# Altium integrated library Analog Devices Data Converters Analog-to-Digital Converters.IntLib: 2404 symbols (part 332 of 346)
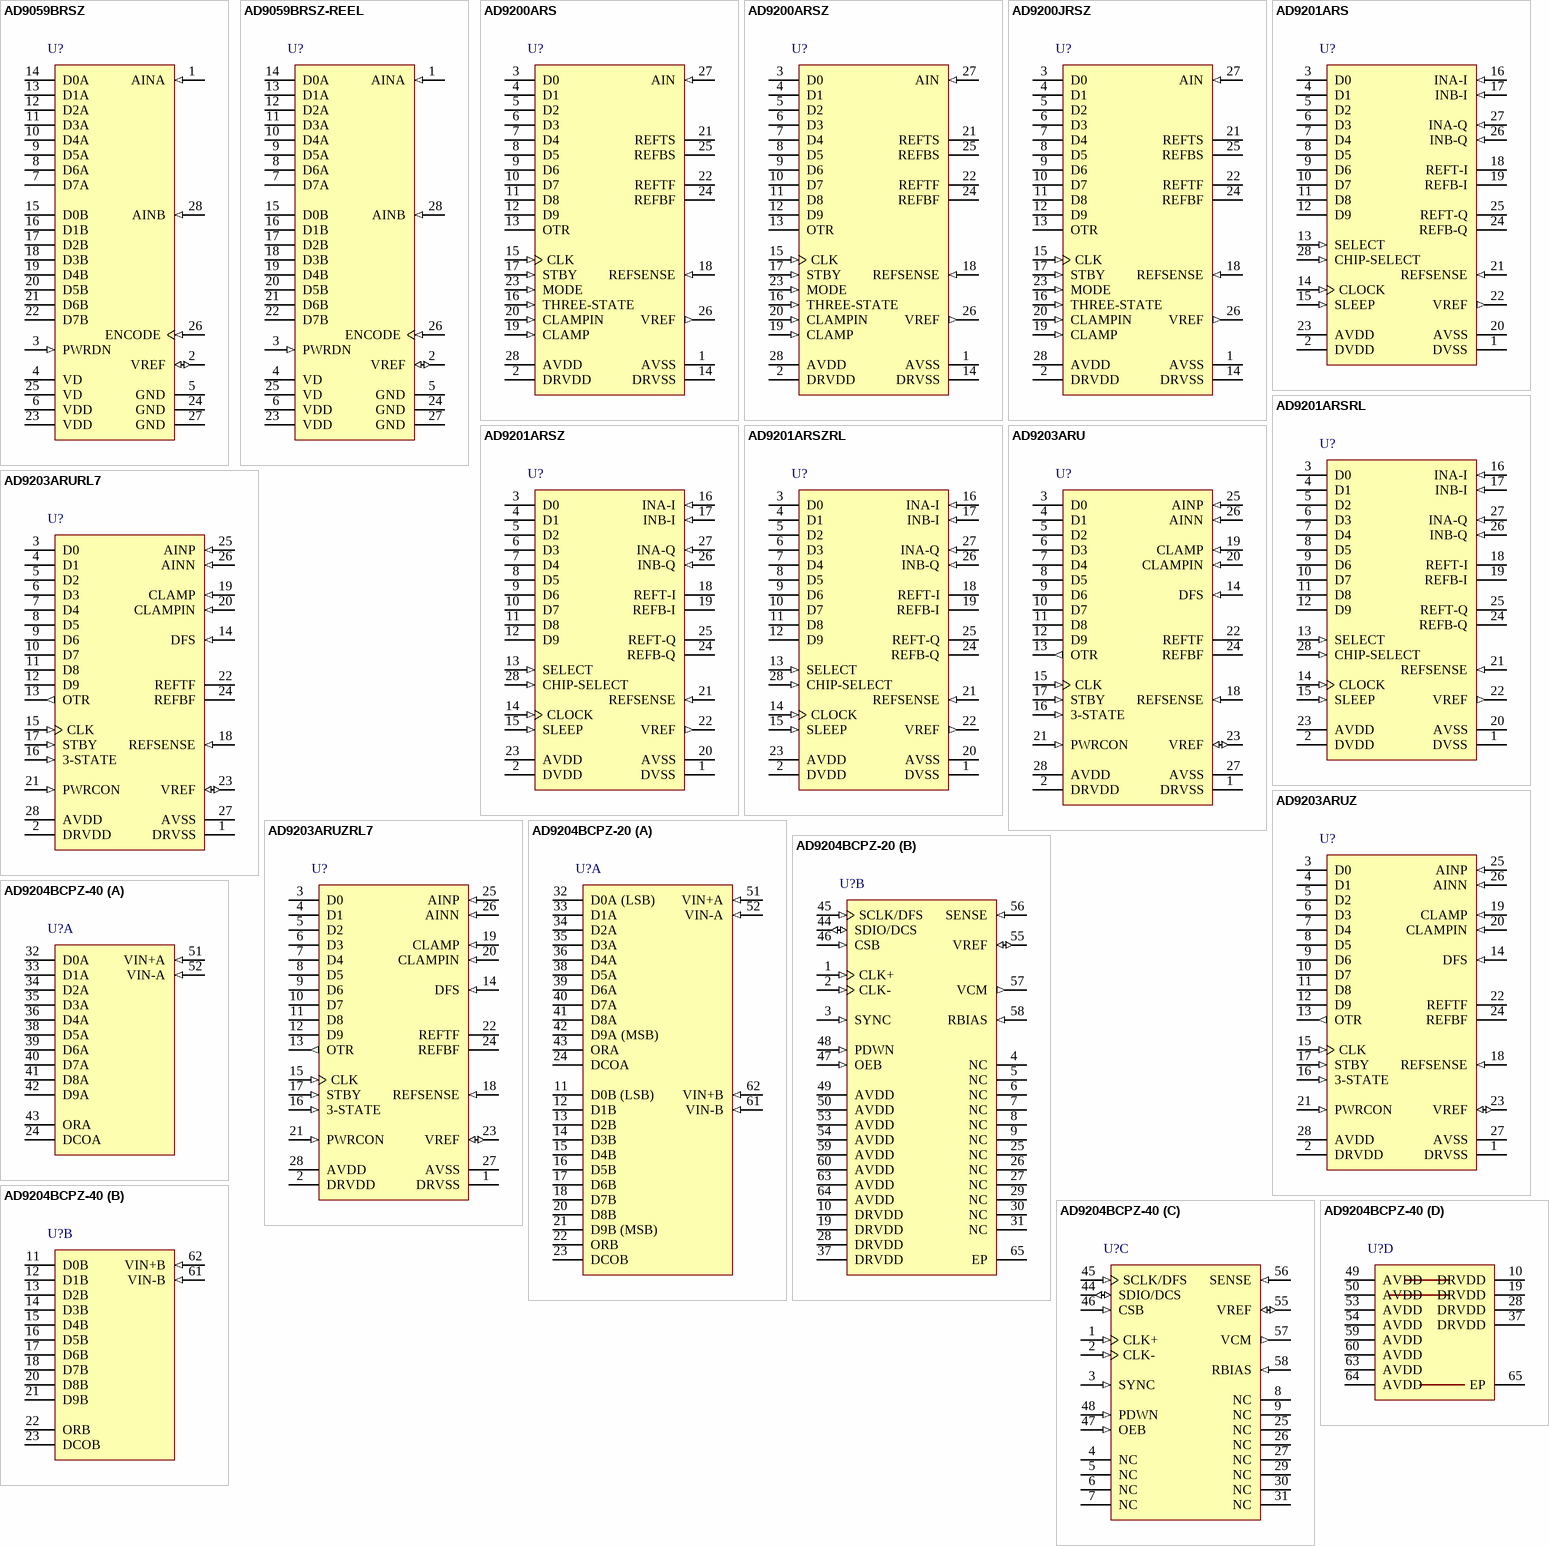
[diagram p432: symbols AD9059BRSZ to AD9204BCPZ-40]

## AD9200JRSZ
designator U?
Single 10-Bit Analog-to-Digital Converter with Parallel Interface, 80 mW, CMOS, 20MSPS, 0 to +70 degC, RS-28, Pb-Free, Tube; Generic Part Number: AD9200; Manufacturer: Analog Devices; PartNumber: AD9200JRSZ; Resolution (Bits): 10; Channels: 1; Throughput Rate (SPS): 20M; Interface: Par; DatasheetVersion: Rev.E; PackageVersion: 060106-A; PackageReference: RS-28; PackageDescription: 28-Lead Shrink Small Outline Package [SSOP]; Supplier 1: Digi-Key; Supplier Part Number 1: AD9200JRSZ-ND; Supplier 2: Newark; Supplier Part Number 2: 59K7122; Supplier 3: Mouser; Supplier Part Number 3: 584-AD9200JRSZ; RoHS: Y; Packing: Tube; Mounting Technology: Surface Mount; Code_JEDEC: MO-150-AH; ComponentLink1Description: Manufacturer URL; ComponentLink1URL: http://www.analog.com/en/index.html; ComponentLink2Description: Datasheet; ComponentLink2URL: http://www.analog.com/static/imported-files/data_sheets/AD9200.pdf; ComponentLink3Description: Package Specification; ComponentLink3URL: http://www.analog.com/static/imported-files/packages/32122249223724RS_28.pdf; ComponentLink4Description: Product URL; ComponentLink4URL: http://www.analog.com/en/analog-to-digital-converters/ad-converters/ad9200/products/product.html
footprint RS-28_N (SOP, 28-Leads, Body 10.2x5.3mm, Pitch 0.65mm, IPC Medium Density)
footprint RS-28_L (SOP, 28-Leads, Body 10.2x5.3mm, Pitch 0.65mm, IPC High Density)
footprint RS-28_M (SOP, 28-Leads, Body 10.2x5.3mm, Pitch 0.65mm, IPC Low Density)
pins: 1 AVSS (power) "Analog Ground", 2 DRVDD (power) "Digital Driver Supply", 3 D0 (hiz) "Bit 0, Least Significant Bit", 4 D1 (hiz) "Bit 1", 5 D2 (hiz) "Bit 2", 6 D3 (hiz) "Bit 3", 7 D4 (hiz) "Bit 4", 8 D5 (hiz) "Bit 5", 9 D6 (hiz) "Bit 6", 10 D7 (hiz) "Bit 7", 11 D8 (hiz) "Bit 8", 12 D9 (hiz) "Bit 9, Most Significant Bit", 13 OTR (hiz) "Out-of-Range Indicator", 14 DRVSS (power) "Digital Ground", 15 CLK (in) "Clock Input", 16 THREE-STATE (in) "HI: High Impedance State. LO: Normal Operation", 17 STBY (in) "HI: Power-Down Mode. LO: Normal Operation", 18 REFSENSE (in) "Reference Select", 19 CLAMP (in) "HI: Enable Clamp Mode. LO: No Clamp", 20 CLAMPIN (in) "Clamp Reference Input", 21 REFTS "Top Reference", 22 REFTF "Top Reference Decoupling", 23 MODE (in) "Mode Select", 24 REFBF "Bottom Reference Decoupling", 25 REFBS "Bottom Reference", 26 VREF (out) "Internal Reference Output", 27 AIN (in) "Analog Input", 28 AVDD (power) "Analog Supply"

## AD9201ARS
designator U?
Dual 10-Bit Analog-to-Digital Converter with Parallel Interface, 20MSPS, -40 to +85 degC, RS-28, Tube; Generic Part Number: AD9201; Manufacturer: Analog Devices; PartNumber: AD9201ARS; Resolution (Bits): 10; Channels: 2; Throughput Rate (SPS): 20M; Interface: Par; DatasheetVersion: Rev.D; PackageVersion: 060106-A; PackageReference: RS-28; PackageDescription: 28-Lead Shrink Small Outline Package [SSOP]; Supplier 1: Digi-Key; Supplier Part Number 1: AD9201ARS-ND; Supplier 2: Farnell; Supplier Part Number 2: 117109; Supplier 3: Mouser; Supplier Part Number 3: 584-AD9201ARS; RoHS: N; Packing: Tube; Mounting Technology: Surface Mount; Code_JEDEC: MO-150-AH; ComponentLink1Description: Manufacturer URL; ComponentLink1URL: http://www.analog.com/en/index.html; ComponentLink2Description: Datasheet; ComponentLink2URL: http://www.analog.com/static/imported-files/data_sheets/AD9201.pdf; ComponentLink3Description: Package Specification; ComponentLink3URL: http://www.analog.com/static/imported-files/packages/32122249223724RS_28.pdf; ComponentLink4Description: Product URL; ComponentLink4URL: http://www.analog.com/en/analog-to-digital-converters/ad-converters/ad9201/products/product.html
footprint RS-28_N (SOP, 28-Leads, Body 10.2x5.3mm, Pitch 0.65mm, IPC Medium Density)
footprint RS-28_L (SOP, 28-Leads, Body 10.2x5.3mm, Pitch 0.65mm, IPC High Density)
footprint RS-28_M (SOP, 28-Leads, Body 10.2x5.3mm, Pitch 0.65mm, IPC Low Density)
pins: 1 DVSS (power) "Digital Ground", 2 DVDD (power) "Digital Supply", 3 D0 (hiz) "Bit 0 (LSB)", 4 D1 (hiz) "Bit 1", 5 D2 (hiz) "Bit 2", 6 D3 (hiz) "Bit 3", 7 D4 (hiz) "Bit 4", 8 D5 (hiz) "Bit 5", 9 D6 (hiz) "Bit 6", 10 D7 (hiz) "Bit 7", 11 D8 (hiz) "Bit 8", 12 D9 (hiz) "Bit 9 (MSB)", 13 SELECT (in) "Hi I Channel Out, Lo Q Channel Out", 14 CLOCK (in) "Clock", 15 SLEEP (in) "Hi Power Down, Lo Normal Operation", 16 INA-I (in) "I Channel, A Input", 17 INB-I (in) "I Channel, B Input", 18 REFT-I "Top Reference Decoupling, I Channel", 19 REFB-I "Bottom Reference Decoupling, I Channel", 20 AVSS (power) "Analog Ground", 21 REFSENSE (in) "Reference Select", 22 VREF (out) "Internal Reference Output", 23 AVDD (power) "Analog Supply", 24 REFB-Q "Bottom Reference Decoupling, Q Channel", 25 REFT-Q "Top Reference Decoupling, Q Channel", 26 INB-Q (in) "Q Channel, B Input", 27 INA-Q (in) "Q Channel, A Input", 28 CHIP-SELECT (in) "Hi-High Impedance, Lo-Normal Operation"

## AD9201ARSRL
designator U?
Dual 10-Bit Analog-to-Digital Converter with Parallel Interface, 20MSPS, -40 to +85 degC, RS-28, Reel; Generic Part Number: AD9201; Manufacturer: Analog Devices; PartNumber: AD9201ARSRL; Resolution (Bits): 10; Channels: 2; Throughput Rate (SPS): 20M; Interface: Par; DatasheetVersion: Rev.D; PackageVersion: 060106-A; PackageReference: RS-28; PackageDescription: 28-Lead Shrink Small Outline Package [SSOP]; Supplier 1: Digi-Key; Supplier Part Number 1: AD9201ARSRL-ND; Supplier 2: Mouser; Supplier Part Number 2: 584-AD9201ARSR; RoHS: N; Packing: Reel; Mounting Technology: Surface Mount; Code_JEDEC: MO-150-AH; ComponentLink1Description: Manufacturer URL; ComponentLink1URL: http://www.analog.com/en/index.html; ComponentLink2Description: Datasheet; ComponentLink2URL: http://www.analog.com/static/imported-files/data_sheets/AD9201.pdf; ComponentLink3Description: Package Specification; ComponentLink3URL: http://www.analog.com/static/imported-files/packages/32122249223724RS_28.pdf; ComponentLink4Description: Product URL; ComponentLink4URL: http://www.analog.com/en/analog-to-digital-converters/ad-converters/ad9201/products/product.html
footprint RS-28_N (SOP, 28-Leads, Body 10.2x5.3mm, Pitch 0.65mm, IPC Medium Density)
footprint RS-28_L (SOP, 28-Leads, Body 10.2x5.3mm, Pitch 0.65mm, IPC High Density)
footprint RS-28_M (SOP, 28-Leads, Body 10.2x5.3mm, Pitch 0.65mm, IPC Low Density)
pins: 1 DVSS (power) "Digital Ground", 2 DVDD (power) "Digital Supply", 3 D0 (hiz) "Bit 0 (LSB)", 4 D1 (hiz) "Bit 1", 5 D2 (hiz) "Bit 2", 6 D3 (hiz) "Bit 3", 7 D4 (hiz) "Bit 4", 8 D5 (hiz) "Bit 5", 9 D6 (hiz) "Bit 6", 10 D7 (hiz) "Bit 7", 11 D8 (hiz) "Bit 8", 12 D9 (hiz) "Bit 9 (MSB)", 13 SELECT (in) "Hi I Channel Out, Lo Q Channel Out", 14 CLOCK (in) "Clock", 15 SLEEP (in) "Hi Power Down, Lo Normal Operation", 16 INA-I (in) "I Channel, A Input", 17 INB-I (in) "I Channel, B Input", 18 REFT-I "Top Reference Decoupling, I Channel", 19 REFB-I "Bottom Reference Decoupling, I Channel", 20 AVSS (power) "Analog Ground", 21 REFSENSE (in) "Reference Select", 22 VREF (out) "Internal Reference Output", 23 AVDD (power) "Analog Supply", 24 REFB-Q "Bottom Reference Decoupling, Q Channel", 25 REFT-Q "Top Reference Decoupling, Q Channel", 26 INB-Q (in) "Q Channel, B Input", 27 INA-Q (in) "Q Channel, A Input", 28 CHIP-SELECT (in) "Hi-High Impedance, Lo-Normal Operation"

## AD9201ARSZ
designator U?
Dual 10-Bit Analog-to-Digital Converter with Parallel Interface, 20MSPS, -40 to +85 degC, RS-28, Pb-Free, Tube; Generic Part Number: AD9201; Manufacturer: Analog Devices; PartNumber: AD9201ARSZ; Resolution (Bits): 10; Channels: 2; Throughput Rate (SPS): 20M; Interface: Par; DatasheetVersion: Rev.D; PackageVersion: 060106-A; PackageReference: RS-28; PackageDescription: 28-Lead Shrink Small Outline Package [SSOP]; Supplier 1: Digi-Key; Supplier Part Number 1: AD9201ARSZ-ND; Supplier 2: Farnell; Supplier Part Number 2: 1079291; Supplier 3: Newark; Supplier Part Number 3: 19M1005; Supplier 4: Mouser; Supplier Part Number 4: 584-AD9201ARSZ; RoHS: Y; Packing: Tube; Mounting Technology: Surface Mount; Code_JEDEC: MO-150-AH; ComponentLink1Description: Manufacturer URL; ComponentLink1URL: http://www.analog.com/en/index.html; ComponentLink2Description: Datasheet; ComponentLink2URL: http://www.analog.com/static/imported-files/data_sheets/AD9201.pdf; ComponentLink3Description: Package Specification; ComponentLink3URL: http://www.analog.com/static/imported-files/packages/32122249223724RS_28.pdf; ComponentLink4Description: Product URL; ComponentLink4URL: http://www.analog.com/en/analog-to-digital-converters/ad-converters/ad9201/products/product.html
footprint RS-28_N (SOP, 28-Leads, Body 10.2x5.3mm, Pitch 0.65mm, IPC Medium Density)
footprint RS-28_L (SOP, 28-Leads, Body 10.2x5.3mm, Pitch 0.65mm, IPC High Density)
footprint RS-28_M (SOP, 28-Leads, Body 10.2x5.3mm, Pitch 0.65mm, IPC Low Density)
pins: 1 DVSS (power) "Digital Ground", 2 DVDD (power) "Digital Supply", 3 D0 (hiz) "Bit 0 (LSB)", 4 D1 (hiz) "Bit 1", 5 D2 (hiz) "Bit 2", 6 D3 (hiz) "Bit 3", 7 D4 (hiz) "Bit 4", 8 D5 (hiz) "Bit 5", 9 D6 (hiz) "Bit 6", 10 D7 (hiz) "Bit 7", 11 D8 (hiz) "Bit 8", 12 D9 (hiz) "Bit 9 (MSB)", 13 SELECT (in) "Hi I Channel Out, Lo Q Channel Out", 14 CLOCK (in) "Clock", 15 SLEEP (in) "Hi Power Down, Lo Normal Operation", 16 INA-I (in) "I Channel, A Input", 17 INB-I (in) "I Channel, B Input", 18 REFT-I "Top Reference Decoupling, I Channel", 19 REFB-I "Bottom Reference Decoupling, I Channel", 20 AVSS (power) "Analog Ground", 21 REFSENSE (in) "Reference Select", 22 VREF (out) "Internal Reference Output", 23 AVDD (power) "Analog Supply", 24 REFB-Q "Bottom Reference Decoupling, Q Channel", 25 REFT-Q "Top Reference Decoupling, Q Channel", 26 INB-Q (in) "Q Channel, B Input", 27 INA-Q (in) "Q Channel, A Input", 28 CHIP-SELECT (in) "Hi-High Impedance, Lo-Normal Operation"

## AD9201ARSZRL
designator U?
Dual 10-Bit Analog-to-Digital Converter with Parallel Interface, 20MSPS, -40 to +85 degC, RS-28, Pb-Free, Reel; Generic Part Number: AD9201; Manufacturer: Analog Devices; PartNumber: AD9201ARSZRL; Resolution (Bits): 10; Channels: 2; Throughput Rate (SPS): 20M; Interface: Par; DatasheetVersion: Rev.D; PackageVersion: 060106-A; PackageReference: RS-28; PackageDescription: 28-Lead Shrink Small Outline Package [SSOP]; Supplier 1: Digi-Key; Supplier Part Number 1: AD9201ARSZRLTR-ND; Supplier 2: Digi-Key; Supplier Part Number 2: AD9201ARSZRLCT-ND; Supplier 3: Digi-Key; Supplier Part Number 3: AD9201ARSZRLDKR-ND; Supplier 4: Newark; Supplier Part Number 4: 28M4165; Supplier 5: Mouser; Supplier Part Number 5: 584-AD9201ARSZR; RoHS: Y; Packing: Reel; Mounting Technology: Surface Mount; Code_JEDEC: MO-150-AH; ComponentLink1Description: Manufacturer URL; ComponentLink1URL: http://www.analog.com/en/index.html; ComponentLink2Description: Datasheet; ComponentLink2URL: http://www.analog.com/static/imported-files/data_sheets/AD9201.pdf; ComponentLink3Description: Package Specification; ComponentLink3URL: http://www.analog.com/static/imported-files/packages/32122249223724RS_28.pdf; ComponentLink4Description: Product URL; ComponentLink4URL: http://www.analog.com/en/analog-to-digital-converters/ad-converters/ad9201/products/product.html
footprint RS-28_N (SOP, 28-Leads, Body 10.2x5.3mm, Pitch 0.65mm, IPC Medium Density)
footprint RS-28_L (SOP, 28-Leads, Body 10.2x5.3mm, Pitch 0.65mm, IPC High Density)
footprint RS-28_M (SOP, 28-Leads, Body 10.2x5.3mm, Pitch 0.65mm, IPC Low Density)
pins: 1 DVSS (power) "Digital Ground", 2 DVDD (power) "Digital Supply", 3 D0 (hiz) "Bit 0 (LSB)", 4 D1 (hiz) "Bit 1", 5 D2 (hiz) "Bit 2", 6 D3 (hiz) "Bit 3", 7 D4 (hiz) "Bit 4", 8 D5 (hiz) "Bit 5", 9 D6 (hiz) "Bit 6", 10 D7 (hiz) "Bit 7", 11 D8 (hiz) "Bit 8", 12 D9 (hiz) "Bit 9 (MSB)", 13 SELECT (in) "Hi I Channel Out, Lo Q Channel Out", 14 CLOCK (in) "Clock", 15 SLEEP (in) "Hi Power Down, Lo Normal Operation", 16 INA-I (in) "I Channel, A Input", 17 INB-I (in) "I Channel, B Input", 18 REFT-I "Top Reference Decoupling, I Channel", 19 REFB-I "Bottom Reference Decoupling, I Channel", 20 AVSS (power) "Analog Ground", 21 REFSENSE (in) "Reference Select", 22 VREF (out) "Internal Reference Output", 23 AVDD (power) "Analog Supply", 24 REFB-Q "Bottom Reference Decoupling, Q Channel", 25 REFT-Q "Top Reference Decoupling, Q Channel", 26 INB-Q (in) "Q Channel, B Input", 27 INA-Q (in) "Q Channel, A Input", 28 CHIP-SELECT (in) "Hi-High Impedance, Lo-Normal Operation"

## AD9203ARU
designator U?
Single 10-Bit Analog-to-Digital Converter with Parallel Interface, 74 mW, 40MSPS, -40 to +85 degC, RU-28, Tube; Generic Part Number: AD9203; Manufacturer: Analog Devices; PartNumber: AD9203ARU; Resolution (Bits): 10; Channels: 1; Throughput Rate (SPS): 40M; Interface: Par; DatasheetVersion: Rev.B; PackageVersion: 2005; PackageReference: RU-28; PackageDescription: 28-Lead Thin Shrink Small Outline Package [TSSOP]; Supplier 1: Digi-Key; Supplier Part Number 1: AD9203ARU-ND; Supplier 2: Mouser; Supplier Part Number 2: 584-AD9203ARU; RoHS: N; Packing: Tube; Mounting Technology: Surface Mount; Code_JEDEC: MO-153-AE; ComponentLink1Description: Manufacturer URL; ComponentLink1URL: http://www.analog.com/en/index.html; ComponentLink2Description: Datasheet; ComponentLink2URL: http://www.analog.com/static/imported-files/data_sheets/AD9203.pdf; ComponentLink3Description: Package Specification; ComponentLink3URL: http://www.analog.com/static/imported-files/packages/249854663RU_28.pdf; ComponentLink4Description: Product URL; ComponentLink4URL: http://www.analog.com/en/analog-to-digital-converters/ad-converters/ad9203/products/product.html
footprint RU-28_N (TSOP, 28-Leads, Body 9.7x4.4mm, Pitch 0.65mm, IPC Medium Density)
footprint RU-28_L (TSOP, 28-Leads, Body 9.7x4.4mm, Pitch 0.65mm, IPC High Density)
footprint RU-28_M (TSOP, 28-Leads, Body 9.7x4.4mm, Pitch 0.65mm, IPC Low Density)
pins: 1 DRVSS (power) "Digital Ground.", 2 DRVDD (power) "Digital Supply.", 3 D0 (hiz) "Bit 0, Least Significant Bit.", 4 D1 (hiz) "Bit 1.", 5 D2 (hiz) "Bit 2.", 6 D3 (hiz) "Bit 3.", 7 D4 (hiz) "Bit 4.", 8 D5 (hiz) "Bit 5.", 9 D6 (hiz) "Bit 6.", 10 D7 (hiz) "Bit 7.", 11 D8 (hiz) "Bit 8.", 12 D9 (hiz) "Bit 9, Most Significant Bit.", 13 OTR (out) "Out-of-Range Indicator.", 14 DFS (in) "Data Format Select HI: Twos Complement; LO: Straight Binary.", 15 CLK (in) "Clock Input.", 16 3-STATE (in) "HI: High Impedance State Output; LO: Active Digital Output Drives.", 17 STBY (in) "HI: Power-Down Mode; LO: Normal Operation.", 18 REFSENSE (in) "Reference Select.", 19 CLAMP (in) "HI: Enable Clamp; LO: Open Clamp.", 20 CLAMPIN (in) "Clamp Signal Input.", 21 PWRCON (in) "Power Control Input.", 22 REFTF "Top Reference Decoupling.", 23 VREF (io) "Reference In/Out.", 24 REFBF "Bottom Reference Decoupling.", 25 AINP (in) "Noninverting Analog Input.", 26 AINN (in) "Inverting Analog Input.", 27 AVSS (power) "Analog Ground.", 28 AVDD (power) "Analog Supply."

## AD9203ARURL7
designator U?
Single 10-Bit Analog-to-Digital Converter with Parallel Interface, 74 mW, 40MSPS, -40 to +85 degC, RU-28, Reel; Generic Part Number: AD9203; Manufacturer: Analog Devices; PartNumber: AD9203ARURL7; Resolution (Bits): 10; Channels: 1; Throughput Rate (SPS): 40M; Interface: Par; DatasheetVersion: Rev.B; PackageVersion: 2005; PackageReference: RU-28; PackageDescription: 28-Lead Thin Shrink Small Outline Package [TSSOP]; Supplier 1: Digi-Key; Supplier Part Number 1: AD9203ARURL7-ND; Supplier 2: Mouser; Supplier Part Number 2: 584-AD9203ARUR7; RoHS: N; Packing: Reel; Mounting Technology: Surface Mount; Code_JEDEC: MO-153-AE; ComponentLink1Description: Manufacturer URL; ComponentLink1URL: http://www.analog.com/en/index.html; ComponentLink2Description: Datasheet; ComponentLink2URL: http://www.analog.com/static/imported-files/data_sheets/AD9203.pdf; ComponentLink3Description: Package Specification; ComponentLink3URL: http://www.analog.com/static/imported-files/packages/249854663RU_28.pdf; ComponentLink4Description: Product URL; ComponentLink4URL: http://www.analog.com/en/analog-to-digital-converters/ad-converters/ad9203/products/product.html
footprint RU-28_N (TSOP, 28-Leads, Body 9.7x4.4mm, Pitch 0.65mm, IPC Medium Density)
footprint RU-28_L (TSOP, 28-Leads, Body 9.7x4.4mm, Pitch 0.65mm, IPC High Density)
footprint RU-28_M (TSOP, 28-Leads, Body 9.7x4.4mm, Pitch 0.65mm, IPC Low Density)
pins: 1 DRVSS (power) "Digital Ground.", 2 DRVDD (power) "Digital Supply.", 3 D0 (hiz) "Bit 0, Least Significant Bit.", 4 D1 (hiz) "Bit 1.", 5 D2 (hiz) "Bit 2.", 6 D3 (hiz) "Bit 3.", 7 D4 (hiz) "Bit 4.", 8 D5 (hiz) "Bit 5.", 9 D6 (hiz) "Bit 6.", 10 D7 (hiz) "Bit 7.", 11 D8 (hiz) "Bit 8.", 12 D9 (hiz) "Bit 9, Most Significant Bit.", 13 OTR (out) "Out-of-Range Indicator.", 14 DFS (in) "Data Format Select HI: Twos Complement; LO: Straight Binary.", 15 CLK (in) "Clock Input.", 16 3-STATE (in) "HI: High Impedance State Output; LO: Active Digital Output Drives.", 17 STBY (in) "HI: Power-Down Mode; LO: Normal Operation.", 18 REFSENSE (in) "Reference Select.", 19 CLAMP (in) "HI: Enable Clamp; LO: Open Clamp.", 20 CLAMPIN (in) "Clamp Signal Input.", 21 PWRCON (in) "Power Control Input.", 22 REFTF "Top Reference Decoupling.", 23 VREF (io) "Reference In/Out.", 24 REFBF "Bottom Reference Decoupling.", 25 AINP (in) "Noninverting Analog Input.", 26 AINN (in) "Inverting Analog Input.", 27 AVSS (power) "Analog Ground.", 28 AVDD (power) "Analog Supply."

## AD9203ARUZ
designator U?
Single 10-Bit Analog-to-Digital Converter with Parallel Interface, 74 mW, 40MSPS, -40 to +85 degC, RU-28, Pb-Free,Tube; Generic Part Number: AD9203; Manufacturer: Analog Devices; PartNumber: AD9203ARUZ; Resolution (Bits): 10; Channels: 1; Throughput Rate (SPS): 40M; Interface: Par; DatasheetVersion: Rev.B; PackageVersion: 2005; PackageReference: RU-28; PackageDescription: 28-Lead Thin Shrink Small Outline Package [TSSOP]; Supplier 1: Digi-Key; Supplier Part Number 1: AD9203ARUZ-ND; Supplier 2: Farnell; Supplier Part Number 2: 2305578; Supplier 3: Newark; Supplier Part Number 3: 82H3049; Supplier 4: Mouser; Supplier Part Number 4: 584-AD9203ARUZ; RoHS: Y; Packing: Tube; Mounting Technology: Surface Mount; Code_JEDEC: MO-153-AE; ComponentLink1Description: Manufacturer URL; ComponentLink1URL: http://www.analog.com/en/index.html; ComponentLink2Description: Datasheet; ComponentLink2URL: http://www.analog.com/static/imported-files/data_sheets/AD9203.pdf; ComponentLink3Description: Package Specification; ComponentLink3URL: http://www.analog.com/static/imported-files/packages/249854663RU_28.pdf; ComponentLink4Description: Product URL; ComponentLink4URL: http://www.analog.com/en/analog-to-digital-converters/ad-converters/ad9203/products/product.html
footprint RU-28_N (TSOP, 28-Leads, Body 9.7x4.4mm, Pitch 0.65mm, IPC Medium Density)
footprint RU-28_L (TSOP, 28-Leads, Body 9.7x4.4mm, Pitch 0.65mm, IPC High Density)
footprint RU-28_M (TSOP, 28-Leads, Body 9.7x4.4mm, Pitch 0.65mm, IPC Low Density)
pins: 1 DRVSS (power) "Digital Ground.", 2 DRVDD (power) "Digital Supply.", 3 D0 (hiz) "Bit 0, Least Significant Bit.", 4 D1 (hiz) "Bit 1.", 5 D2 (hiz) "Bit 2.", 6 D3 (hiz) "Bit 3.", 7 D4 (hiz) "Bit 4.", 8 D5 (hiz) "Bit 5.", 9 D6 (hiz) "Bit 6.", 10 D7 (hiz) "Bit 7.", 11 D8 (hiz) "Bit 8.", 12 D9 (hiz) "Bit 9, Most Significant Bit.", 13 OTR (out) "Out-of-Range Indicator.", 14 DFS (in) "Data Format Select HI: Twos Complement; LO: Straight Binary.", 15 CLK (in) "Clock Input.", 16 3-STATE (in) "HI: High Impedance State Output; LO: Active Digital Output Drives.", 17 STBY (in) "HI: Power-Down Mode; LO: Normal Operation.", 18 REFSENSE (in) "Reference Select.", 19 CLAMP (in) "HI: Enable Clamp; LO: Open Clamp.", 20 CLAMPIN (in) "Clamp Signal Input.", 21 PWRCON (in) "Power Control Input.", 22 REFTF "Top Reference Decoupling.", 23 VREF (io) "Reference In/Out.", 24 REFBF "Bottom Reference Decoupling.", 25 AINP (in) "Noninverting Analog Input.", 26 AINN (in) "Inverting Analog Input.", 27 AVSS (power) "Analog Ground.", 28 AVDD (power) "Analog Supply."

## AD9203ARUZRL7
designator U?
Single 10-Bit Analog-to-Digital Converter with Parallel Interface, 74 mW, 40MSPS, 0 to +70 degC, RU-28, Pb-Free, Reel; Generic Part Number: AD9203; Manufacturer: Analog Devices; PartNumber: AD9203ARUZRL7; Resolution (Bits): 10; Channels: 1; Throughput Rate (SPS): 40M; Interface: Par; DatasheetVersion: Rev.B; PackageVersion: 2005; PackageReference: RU-28; PackageDescription: 28-Lead Thin Shrink Small Outline Package [TSSOP]; Supplier 1: Digi-Key; Supplier Part Number 1: AD9203ARUZRL7TR-ND; Supplier 2: Digi-Key; Supplier Part Number 2: AD9203ARUZRL7CT-ND; Supplier 3: Digi-Key; Supplier Part Number 3: AD9203ARUZRL7DKR-ND; Supplier 4: Newark; Supplier Part Number 4: 82H3050; Supplier 5: Mouser; Supplier Part Number 5: 584-AD9203ARUZR7; RoHS: Y; Packing: Reel; Mounting Technology: Surface Mount; Code_JEDEC: MO-153-AE; ComponentLink1Description: Manufacturer URL; ComponentLink1URL: http://www.analog.com/en/index.html; ComponentLink2Description: Datasheet; ComponentLink2URL: http://www.analog.com/static/imported-files/data_sheets/AD9203.pdf; ComponentLink3Description: Package Specification; ComponentLink3URL: http://www.analog.com/static/imported-files/packages/249854663RU_28.pdf; ComponentLink4Description: Product URL; ComponentLink4URL: http://www.analog.com/en/analog-to-digital-converters/ad-converters/ad9203/products/product.html
footprint RU-28_N (TSOP, 28-Leads, Body 9.7x4.4mm, Pitch 0.65mm, IPC Medium Density)
footprint RU-28_L (TSOP, 28-Leads, Body 9.7x4.4mm, Pitch 0.65mm, IPC High Density)
footprint RU-28_M (TSOP, 28-Leads, Body 9.7x4.4mm, Pitch 0.65mm, IPC Low Density)
pins: 1 DRVSS (power) "Digital Ground.", 2 DRVDD (power) "Digital Supply.", 3 D0 (hiz) "Bit 0, Least Significant Bit.", 4 D1 (hiz) "Bit 1.", 5 D2 (hiz) "Bit 2.", 6 D3 (hiz) "Bit 3.", 7 D4 (hiz) "Bit 4.", 8 D5 (hiz) "Bit 5.", 9 D6 (hiz) "Bit 6.", 10 D7 (hiz) "Bit 7.", 11 D8 (hiz) "Bit 8.", 12 D9 (hiz) "Bit 9, Most Significant Bit.", 13 OTR (out) "Out-of-Range Indicator.", 14 DFS (in) "Data Format Select HI: Twos Complement; LO: Straight Binary.", 15 CLK (in) "Clock Input.", 16 3-STATE (in) "HI: High Impedance State Output; LO: Active Digital Output Drives.", 17 STBY (in) "HI: Power-Down Mode; LO: Normal Operation.", 18 REFSENSE (in) "Reference Select.", 19 CLAMP (in) "HI: Enable Clamp; LO: Open Clamp.", 20 CLAMPIN (in) "Clamp Signal Input.", 21 PWRCON (in) "Power Control Input.", 22 REFTF "Top Reference Decoupling.", 23 VREF (io) "Reference In/Out.", 24 REFBF "Bottom Reference Decoupling.", 25 AINP (in) "Noninverting Analog Input.", 26 AINN (in) "Inverting Analog Input.", 27 AVSS (power) "Analog Ground.", 28 AVDD (power) "Analog Supply."